# Altium integrated library Motorola Logic Comparator.IntLib: 12 symbols
Pins are listed as number, name and electrical type; pins without a type are passive.

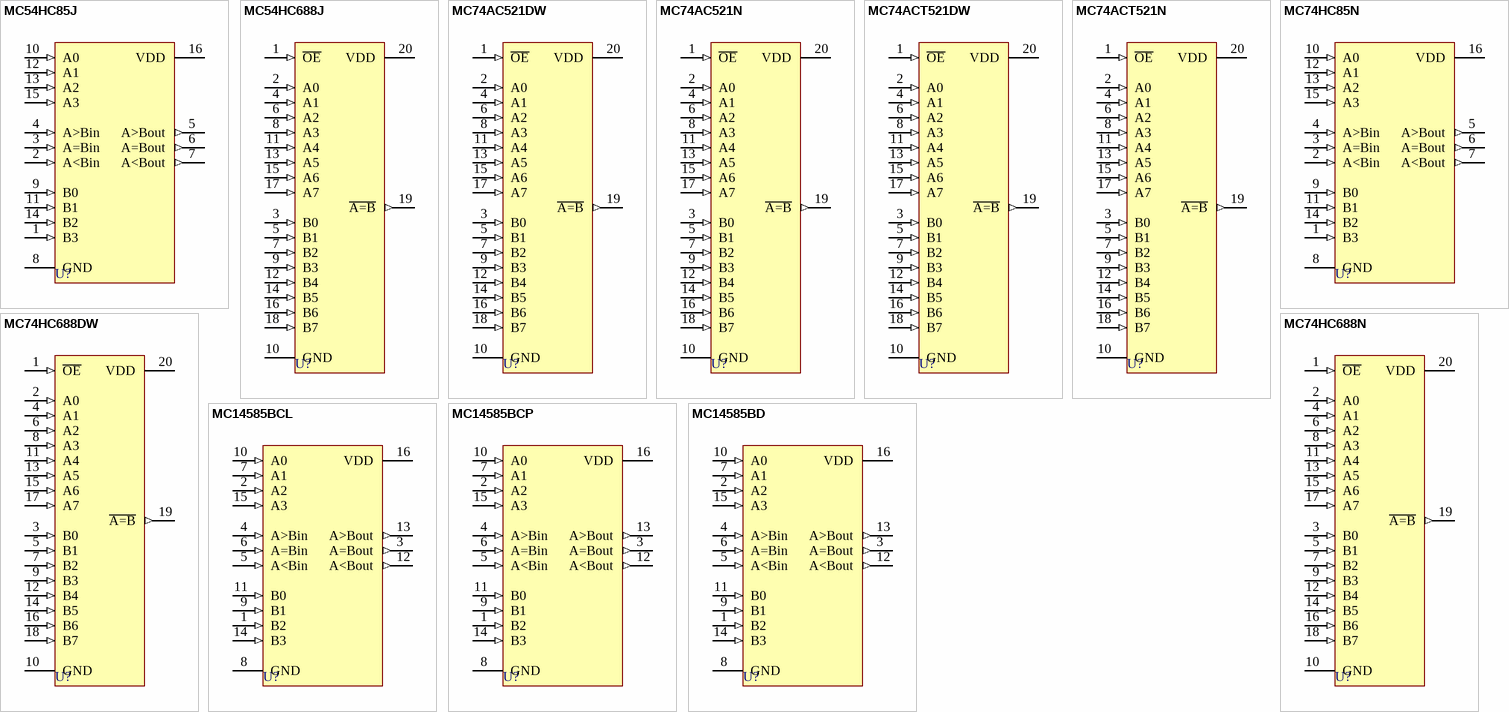
[diagram p0: symbols MC54HC85J to MC14585BD]

## MC54HC85J
designator U?
4-Bit Magnitude Comparator; Published: 17-Jul-2002; LatestRevisionDate: 06-Jun-2005; LatestRevisionNote: Stylized 3D Model Added; DatasheetVersion: 1989; PackageReference: 620-09; Publisher: Altium Limited; PackageDescription: DIP; 16 Leads; Row Spacing 7.62 mm; Pitch 2.54 mm; Code_JEDEC: MS-001-BB; ComponentLink1Description: Manufacturer Link; ComponentLink1URL: http://www.onsemi.com/site/products/parametrics/0,4446,134,00.html
footprint 620-09 (DIP; 16 Leads; Row Spacing 7.62 mm; Pitch 2.54 mm)
3D model 620-09 (DIP; 16 Leads; Row Spacing 7.62 mm; Pitch 2.54 mm)
signal-integrity model MC54HC85J
pins: 1 B3 (in), 2 A<Bin (in), 3 A=Bin (in), 4 A>Bin (in), 5 A>Bout (out), 6 A=Bout (out), 7 A<Bout (out), 8 GND (power), 9 B0 (in), 10 A0 (in), 11 B1 (in), 12 A1 (in), 13 A2 (in), 14 B2 (in), 15 A3 (in), 16 VDD (power)

## MC54HC688J
designator U?
8-Bit Equality Comparator; Published: 17-Jul-2002; LatestRevisionDate: 06-Jun-2005; LatestRevisionNote: Stylized 3D Model Added; DatasheetVersion: 1989; PackageReference: 732-03; Publisher: Altium Limited; PackageDescription: DIP; 20 Leads; Row Spacing 7.62 mm; Pitch 2.54 mm; Code_JEDEC: MS-015-AE; ComponentLink1Description: Manufacturer Link; ComponentLink1URL: http://www.onsemi.com/site/products/parametrics/0,4446,134,00.html
footprint 732-03 (DIP; 20 Leads; Row Spacing 7.62 mm; Pitch 2.54 mm)
3D model 732-03 (DIP; 20 Leads; Row Spacing 7.62 mm; Pitch 2.54 mm)
signal-integrity model MC54HC688J
pins: 1 ~{OE} (in), 2 A0 (in), 3 B0 (in), 4 A1 (in), 5 B1 (in), 6 A2 (in), 7 B2 (in), 8 A3 (in), 9 B3 (in), 10 GND (power), 11 A4 (in), 12 B4 (in), 13 A5 (in), 14 B5 (in), 15 A6 (in), 16 B6 (in), 17 A7 (in), 18 B7 (in), 19 ~{A=B} (out), 20 VDD (power)

## MC74AC521DW
designator U?
8-Bit Identity Comparator; Published: 17-Jul-2002; LatestRevisionDate: 13-Apr-2006; LatestRevisionNote: IPC-7351 Footprint Added.; DatasheetVersion: 1990; PackageReference: 751D-03; Publisher: Altium Limited; PackageDescription: 20-Pin Small Outline Integrated Circuit 1.27 mm Pitch; ComponentLink1Description: Manufacturer Link; ComponentLink1URL: http://www.onsemi.com/site/products/parametrics/0,4446,134,00.html
footprint 751D-03_N (SOIC, 20-Leads, Body 12.8x7.5mm, Pitch 1.27mm, IPC Medium Density)
footprint 751D-03_L (SOIC, 20-Leads, Body 12.8x7.5mm, Pitch 1.27mm, IPC High Density)
footprint 751D-03_M (SOIC, 20-Leads, Body 12.8x7.5mm, Pitch 1.27mm, IPC Low Density)
3D model 751D-03 (20-Pin Small Outline Integrated Circuit 1.27 mm Pitch)
signal-integrity model MC74AC521DW
pins: 1 ~{OE} (in), 2 A0 (in), 3 B0 (in), 4 A1 (in), 5 B1 (in), 6 A2 (in), 7 B2 (in), 8 A3 (in), 9 B3 (in), 10 GND (power), 11 A4 (in), 12 B4 (in), 13 A5 (in), 14 B5 (in), 15 A6 (in), 16 B6 (in), 17 A7 (in), 18 B7 (in), 19 ~{A=B} (out), 20 VDD (power)

## MC74AC521N
designator U?
8-Bit Identity Comparator; Published: 17-Jul-2002; LatestRevisionDate: 06-Jun-2005; LatestRevisionNote: Stylized 3D Model Added; DatasheetVersion: 1990; PackageReference: 738-03; Publisher: Altium Limited; PackageDescription: DIP; 20 Leads; Row Spacing 7.62 mm; Pitch 2.54 mm; Code_JEDEC: MS-001-AD; ComponentLink1Description: Manufacturer Link; ComponentLink1URL: http://www.onsemi.com/site/products/parametrics/0,4446,134,00.html
footprint 738-03 (DIP; 20 Leads; Row Spacing 7.62 mm; Pitch 2.54 mm)
3D model 738-03 (DIP; 20 Leads; Row Spacing 7.62 mm; Pitch 2.54 mm)
signal-integrity model MC74AC521N
pins: 1 ~{OE} (in), 2 A0 (in), 3 B0 (in), 4 A1 (in), 5 B1 (in), 6 A2 (in), 7 B2 (in), 8 A3 (in), 9 B3 (in), 10 GND (power), 11 A4 (in), 12 B4 (in), 13 A5 (in), 14 B5 (in), 15 A6 (in), 16 B6 (in), 17 A7 (in), 18 B7 (in), 19 ~{A=B} (out), 20 VDD (power)

## MC74ACT521DW
designator U?
8-Bit Identity Comparator; Published: 17-Jul-2002; LatestRevisionDate: 13-Apr-2006; LatestRevisionNote: IPC-7351 Footprint Added.; DatasheetVersion: 1990; PackageReference: 751D-03; Publisher: Altium Limited; PackageDescription: 20-Pin Small Outline Integrated Circuit 1.27 mm Pitch; ComponentLink1Description: Manufacturer Link; ComponentLink1URL: http://www.onsemi.com/site/products/parametrics/0,4446,134,00.html
footprint 751D-03_N (SOIC, 20-Leads, Body 12.8x7.5mm, Pitch 1.27mm, IPC Medium Density)
footprint 751D-03_L (SOIC, 20-Leads, Body 12.8x7.5mm, Pitch 1.27mm, IPC High Density)
footprint 751D-03_M (SOIC, 20-Leads, Body 12.8x7.5mm, Pitch 1.27mm, IPC Low Density)
3D model 751D-03 (20-Pin Small Outline Integrated Circuit 1.27 mm Pitch)
signal-integrity model MC74ACT521DW
pins: 1 ~{OE} (in), 2 A0 (in), 3 B0 (in), 4 A1 (in), 5 B1 (in), 6 A2 (in), 7 B2 (in), 8 A3 (in), 9 B3 (in), 10 GND (power), 11 A4 (in), 12 B4 (in), 13 A5 (in), 14 B5 (in), 15 A6 (in), 16 B6 (in), 17 A7 (in), 18 B7 (in), 19 ~{A=B} (out), 20 VDD (power)

## MC74ACT521N
designator U?
8-Bit Identity Comparator; Published: 17-Jul-2002; LatestRevisionDate: 06-Jun-2005; LatestRevisionNote: Stylized 3D Model Added; DatasheetVersion: 1990; PackageReference: 738-03; Publisher: Altium Limited; PackageDescription: DIP; 20 Leads; Row Spacing 7.62 mm; Pitch 2.54 mm; Code_JEDEC: MS-001-AD; ComponentLink1Description: Manufacturer Link; ComponentLink1URL: http://www.onsemi.com/site/products/parametrics/0,4446,134,00.html
footprint 738-03 (DIP; 20 Leads; Row Spacing 7.62 mm; Pitch 2.54 mm)
3D model 738-03 (DIP; 20 Leads; Row Spacing 7.62 mm; Pitch 2.54 mm)
signal-integrity model MC74ACT521N
pins: 1 ~{OE} (in), 2 A0 (in), 3 B0 (in), 4 A1 (in), 5 B1 (in), 6 A2 (in), 7 B2 (in), 8 A3 (in), 9 B3 (in), 10 GND (power), 11 A4 (in), 12 B4 (in), 13 A5 (in), 14 B5 (in), 15 A6 (in), 16 B6 (in), 17 A7 (in), 18 B7 (in), 19 ~{A=B} (out), 20 VDD (power)

## MC74HC85N
designator U?
4-Bit Magnitude Comparator; Published: 17-Jul-2002; LatestRevisionDate: 06-Jun-2005; LatestRevisionNote: Stylized 3D Model Added; DatasheetVersion: 1989; PackageReference: 648-06; Publisher: Altium Limited; PackageDescription: DIP; 16 Leads; Row Spacing 7.62 mm; Pitch 2.54 mm; ComponentLink1Description: Manufacturer Link; ComponentLink1URL: http://www.onsemi.com/site/products/parametrics/0,4446,134,00.html
footprint 648-06 (DIP; 16 Leads; Row Spacing 7.62 mm; Pitch 2.54 mm)
3D model 648-06 (DIP; 16 Leads; Row Spacing 7.62 mm; Pitch 2.54 mm)
signal-integrity model MC74HC85N
pins: 1 B3 (in), 2 A<Bin (in), 3 A=Bin (in), 4 A>Bin (in), 5 A>Bout (out), 6 A=Bout (out), 7 A<Bout (out), 8 GND (power), 9 B0 (in), 10 A0 (in), 11 B1 (in), 12 A1 (in), 13 A2 (in), 14 B2 (in), 15 A3 (in), 16 VDD (power)

## MC74HC688DW
designator U?
8-Bit Equality Comparator; Published: 17-Jul-2002; LatestRevisionDate: 13-Apr-2006; LatestRevisionNote: IPC-7351 Footprint Added.; DatasheetVersion: 1989; PackageReference: 751D-03; Publisher: Altium Limited; PackageDescription: 20-Pin Small Outline Integrated Circuit 1.27 mm Pitch; ComponentLink1Description: Manufacturer Link; ComponentLink1URL: http://www.onsemi.com/site/products/parametrics/0,4446,134,00.html
footprint 751D-03_N (SOIC, 20-Leads, Body 12.8x7.5mm, Pitch 1.27mm, IPC Medium Density)
footprint 751D-03_L (SOIC, 20-Leads, Body 12.8x7.5mm, Pitch 1.27mm, IPC High Density)
footprint 751D-03_M (SOIC, 20-Leads, Body 12.8x7.5mm, Pitch 1.27mm, IPC Low Density)
3D model 751D-03 (20-Pin Small Outline Integrated Circuit 1.27 mm Pitch)
signal-integrity model MC74HC688DW
pins: 1 ~{OE} (in), 2 A0 (in), 3 B0 (in), 4 A1 (in), 5 B1 (in), 6 A2 (in), 7 B2 (in), 8 A3 (in), 9 B3 (in), 10 GND (power), 11 A4 (in), 12 B4 (in), 13 A5 (in), 14 B5 (in), 15 A6 (in), 16 B6 (in), 17 A7 (in), 18 B7 (in), 19 ~{A=B} (out), 20 VDD (power)

## MC74HC688N
designator U?
8-Bit Equality Comparator; Published: 17-Jul-2002; LatestRevisionDate: 06-Jun-2005; LatestRevisionNote: Stylized 3D Model Added; DatasheetVersion: 1989; PackageReference: 738-03; Publisher: Altium Limited; PackageDescription: DIP; 20 Leads; Row Spacing 7.62 mm; Pitch 2.54 mm; Code_JEDEC: MS-001-AD; ComponentLink1Description: Manufacturer Link; ComponentLink1URL: http://www.onsemi.com/site/products/parametrics/0,4446,134,00.html
footprint 738-03 (DIP; 20 Leads; Row Spacing 7.62 mm; Pitch 2.54 mm)
3D model 738-03 (DIP; 20 Leads; Row Spacing 7.62 mm; Pitch 2.54 mm)
signal-integrity model MC74HC688N
pins: 1 ~{OE} (in), 2 A0 (in), 3 B0 (in), 4 A1 (in), 5 B1 (in), 6 A2 (in), 7 B2 (in), 8 A3 (in), 9 B3 (in), 10 GND (power), 11 A4 (in), 12 B4 (in), 13 A5 (in), 14 B5 (in), 15 A6 (in), 16 B6 (in), 17 A7 (in), 18 B7 (in), 19 ~{A=B} (out), 20 VDD (power)

## MC14585BCL
designator U?
4-Bit Magnitude Comparator; Published: 17-Jul-2002; LatestRevisionDate: 06-Jun-2005; LatestRevisionNote: Stylized 3D Model Added; DatasheetVersion: 1991; PackageReference: 620-09; Publisher: Altium Limited; PackageDescription: DIP; 16 Leads; Row Spacing 7.62 mm; Pitch 2.54 mm; Code_JEDEC: MS-001-BB; ComponentLink1Description: Manufacturer Link; ComponentLink1URL: http://www.onsemi.com/site/products/parametrics/0,4446,134,00.html; ComponentLink2Description: Datasheet; ComponentLink2URL: http://www.onsemi.com/pub/Collateral/MC14585B-D.PDF
footprint 620-09 (DIP; 16 Leads; Row Spacing 7.62 mm; Pitch 2.54 mm)
3D model 620-09 (DIP; 16 Leads; Row Spacing 7.62 mm; Pitch 2.54 mm)
pins: 1 B2 (in), 2 A2 (in), 3 A=Bout (out), 4 A>Bin (in), 5 A<Bin (in), 6 A=Bin (in), 7 A1 (in), 8 GND (power), 9 B1 (in), 10 A0 (in), 11 B0 (in), 12 A<Bout (out), 13 A>Bout (out), 14 B3 (in), 15 A3 (in), 16 VDD (power)

## MC14585BCP
designator U?
4-Bit Magnitude Comparator; Published: 17-Jul-2002; LatestRevisionDate: 06-Jun-2005; LatestRevisionNote: Stylized 3D Model Added; DatasheetVersion: 1991; PackageReference: 648-08; Publisher: Altium Limited; PackageDescription: DIP; 16 Leads; Row Spacing 7.62 mm; Pitch 2.54 mm; Code_JEDEC: MS-001-BB; ComponentLink1Description: Manufacturer Link; ComponentLink1URL: http://www.onsemi.com/site/products/parametrics/0,4446,134,00.html; ComponentLink2Description: Datasheet; ComponentLink2URL: http://www.onsemi.com/pub/Collateral/MC14585B-D.PDF
footprint 648-08 (DIP; 16 Leads; Row Spacing 7.62 mm; Pitch 2.54 mm)
3D model 620-09 (DIP; 16 Leads; Row Spacing 7.62 mm; Pitch 2.54 mm)
pins: 1 B2 (in), 2 A2 (in), 3 A=Bout (out), 4 A>Bin (in), 5 A<Bin (in), 6 A=Bin (in), 7 A1 (in), 8 GND (power), 9 B1 (in), 10 A0 (in), 11 B0 (in), 12 A<Bout (out), 13 A>Bout (out), 14 B3 (in), 15 A3 (in), 16 VDD (power)

## MC14585BD
designator U?
4-Bit Magnitude Comparator; Published: 17-Jul-2002; LatestRevisionDate: 13-Apr-2006; LatestRevisionNote: IPC-7351 Footprint Added.; DatasheetVersion: 1991; PackageVersion: 1991; PackageReference: 751B-03; Publisher: Altium Limited; PackageDescription: 16-Pin Small Outline Integrated Circuit 1.27 mm Pitch; Code_JEDEC: MS-012-AC; Code_IPC: SOIC127P600-16; ComponentLink1Description: Manufacturer Link; ComponentLink1URL: http://www.onsemi.com/site/products/parametrics/0,4446,134,00.html; ComponentLink2Description: Datasheet; ComponentLink2URL: http://www.onsemi.com/pub/Collateral/MC14585B-D.PDF
footprint 751B-03_N (SOIC, 16-Leads, Body 9.9x3.9mm, Pitch 1.27mm, IPC Medium Density)
footprint 751B-03_L (SOIC, 16-Leads, Body 9.9x3.9mm, Pitch 1.27mm, IPC High Density)
footprint 751B-03_M (SOIC, 16-Leads, Body 9.9x3.9mm, Pitch 1.27mm, IPC Low Density)
3D model 751B-03 (16-Pin Small Outline Integrated Circuit 1.27 mm Pitch)
pins: 1 B2 (in), 2 A2 (in), 3 A=Bout (out), 4 A>Bin (in), 5 A<Bin (in), 6 A=Bin (in), 7 A1 (in), 8 GND (power), 9 B1 (in), 10 A0 (in), 11 B0 (in), 12 A<Bout (out), 13 A>Bout (out), 14 B3 (in), 15 A3 (in), 16 VDD (power)